# Altium integrated library AMS1117-1.8.IntLib: 1 symbol
Pins are listed as number, name and electrical type; pins without a type are passive.

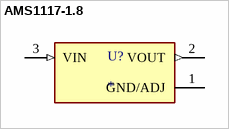
[diagram p0: symbol AMS1117-1.8]

## AMS1117-1.8
designator U?
MP: AMS1117-1.8; Package: None; Price: None; Value: *; Availability: Unavailable
footprint SOT229P700X180-4N
pins: 1 GND/ADJ (power), 2 VOUT (out), 3 VIN (in)